# Altium schematic symbol library Schlib_H2.SchLib: 33 symbols
Pins are listed as number, name and electrical type; pins without a type are passive.

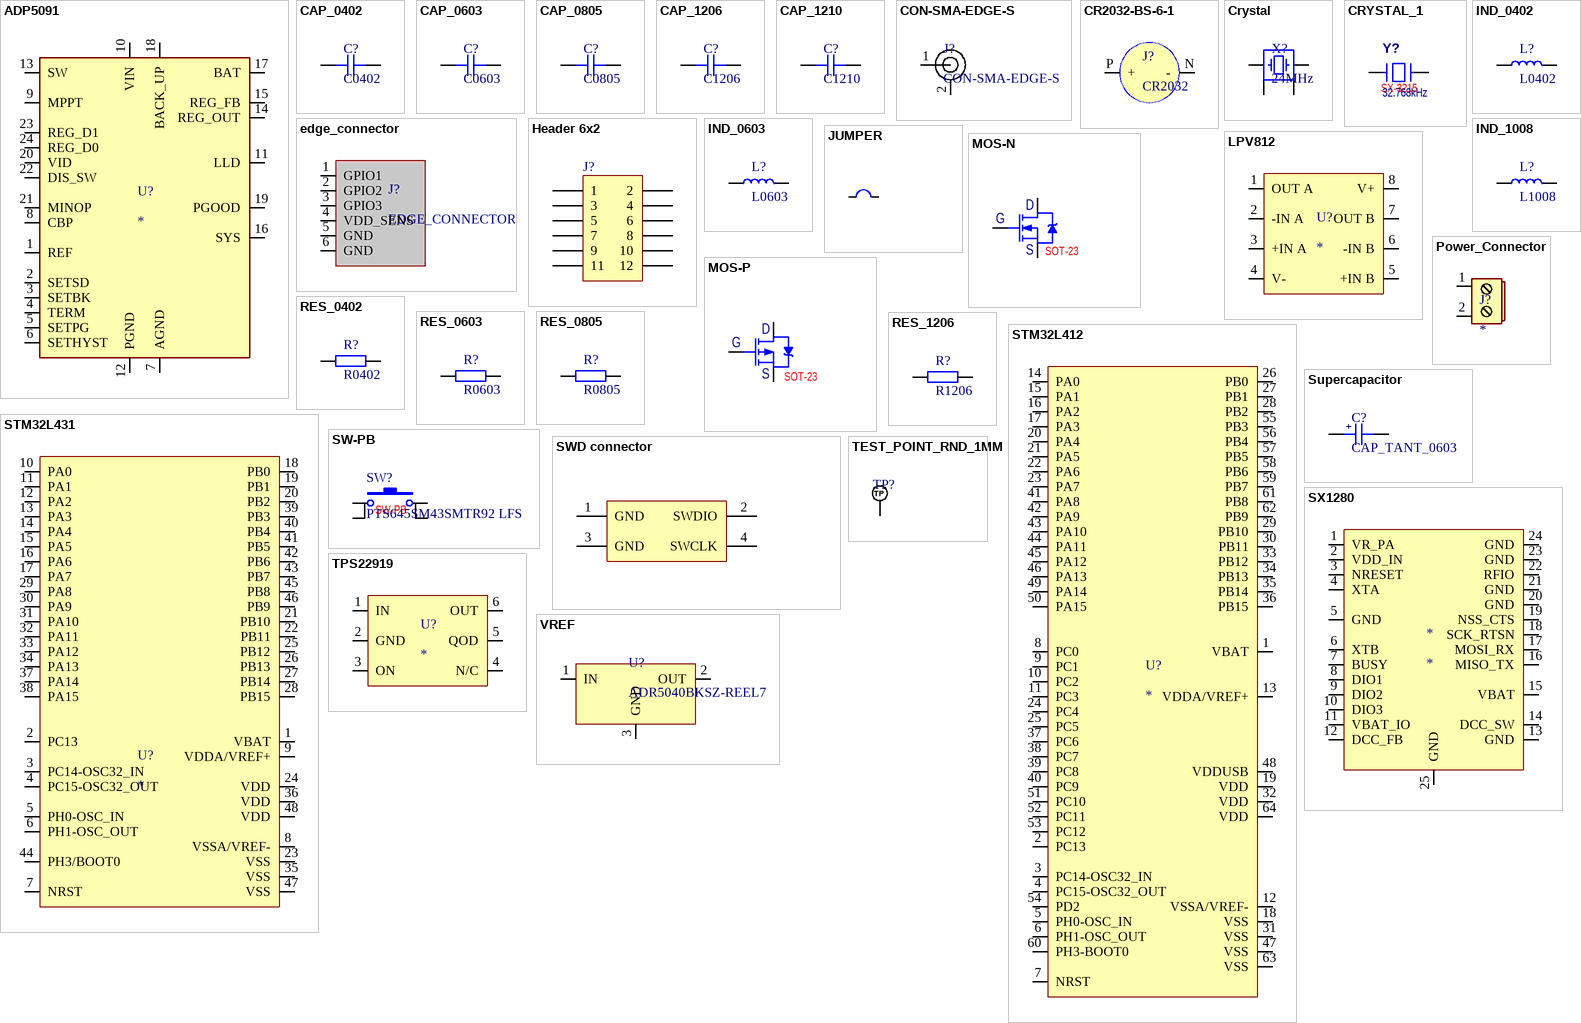
[diagram p0: symbols ADP5091 to VREF]

## ADP5091
designator U?
Ultralow Power Energy Harvester PMUs / with MPPT and Charge Management and BAckup Supply
pins: 1 REF, 2 SETSD, 3 SETBK, 4 TERM, 5 SETPG, 6 SETHYST, 7 AGND, 8 CBP, 9 MPPT, 10 VIN, 11 LLD, 12 PGND, 13 SW, 14 REG_OUT, 15 REG_FB, 16 SYS, 17 BAT, 18 BACK_UP, 19 PGOOD, 20 VID, 21 MINOP, 22 DIS_SW, 23 REG_D1, 24 REG_D0

## CAP_0402
designator C?, comment C0402
Capacitor SMD 0402; Manufacturer: *; Manufacturer Part Number: *; Distributor Link: *; LCSC: *; Rating: *; Dielectric: *
footprint CAP_0402
pins: 1, 2

## CAP_0603
designator C?, comment C0603
Capacitor SMD 0603; Manufacturer: *; Manufacturer Part Number: *; Distributor Link: *; LCSC: *; Rating: *; Dielectric: *
footprint CAP_0603
pins: 1, 2

## CAP_0805
designator C?, comment C0805
Capacitor SMD 0805; Manufacturer: *; Manufacturer Part Number: *; Distributor Link: *; LCSC: *; Rating: *; Dielectric: *
footprint CAP_0805
pins: 1, 2

## CAP_1206
designator C?, comment C1206
Capacitor SMD 1206; Manufacturer: *; Manufacturer Part Number: *; Distributor Link: *; LCSC: *; Rating: *; Dielectric: *
footprint CAP_1206
pins: 1, 2

## CAP_1210
designator C?, comment C1210
Capacitor SMD 1210; Manufacturer: *; Manufacturer Part Number: *; Distributor Link: *; LCSC: *; Rating: *; Dielectric: *
footprint CAP_1210
pins: 1, 2

## CON-SMA-EDGE-S
designator J?
RF Connector SMA Female 50 Ohms 18 GHz PCB Edge Mount; Manufacturer: RF Solutions; Manufacturer Part Number: CON-SMA-EDGE-S
footprint CON-SMA-EDGE-S
pins: 1, 2

## CR2032-BS-6-1
designator J?, comment CR2032
CR2032 Coin Cell Battery Holder; Manufacturer: Q&J; Manufacturer Part Number: CR2032-BS-6-1
footprint CR2032
pins: N -, P +

## Crystal
designator X?, comment 24MHz
Crystal; Manufacturer: Epson; Manufacturer Part Number: TSX-3225 24.0000MF15X-AC
footprint XTAL_3225
pins: 1, 2, 3, 4

## CRYSTAL_1
designator Y?, comment 32.768kHz  PackageReference: SX-3215
Crystal; Manufacturer Part Number 1: *
footprint SX-3215
pins: 1, 2
2 alternate drawings of the same symbol

## edge_connector
designator J?, comment EDGE_CONNECTOR
Connector for sensor modules
pins: 1 GPIO1, 2 GPIO2, 3 GPIO3, 4 VDD_SENS, 5 GND, 6 GND

## Header 6x2
designator J?, comment Header 6X2  (value not drawn)
Header, 12-Pin, Dual row; LatestRevisionDate: 17-Jul-2002; LatestRevisionNote: Re-released for DXP Platform.; Publisher: Altium Limited
footprint HDR2X32 (Connector; Header; 30x2 Position)
signal-integrity model Connector
pins: 1, 2, 3, 4, 5, 6, 7, 8, 9, 10, 11, 12

## IND_0402
designator L?, comment L0402
Inductor SMD 0402
footprint IND_0402
pins: 1, 2

## IND_0603
designator L?, comment L0603
Inductor SMD 0603
footprint IND_0603
pins: 1, 2

## IND_1008
designator L?, comment L1008
Inductor SMD 1008
footprint IND_1008
pins: 1, 2

## JUMPER
designator JP?
*; PackageReference: *; Manufacturer Part Number 1: *
footprint JUMPER_SMD
pins: 1, 2

## LPV812
designator U?
Dual Channel 425nA Precision Nanopower Operational Amplifiers
pins: 1 OUT A, 2 -IN A, 3 +IN A, 4 V-, 5 +IN B, 6 -IN B, 7 OUT B, 8 V+

## MOS-N
designator Q?  PackageReference: SOT-23
Mosfet N Channel; Manufacturer Part Number 1: *
footprint SOT23-3_1-3-2 (SOT-23; 3 Leads; Body 3.0 x 2.5 mm, inc. leads (LxW max))
pins: 1 G, 2 S, 3 D

## MOS-P
designator Q?  PackageReference: SOT-23
MOSFET P Channel; Manufacturer Part Number 1: *
footprint SOT23-3_1-3-2 (SOT-23; 3 Leads; Body 3.0 x 2.5 mm, inc. leads (LxW max))
pins: 1 G, 2 S, 3 D

## Power_Connector
designator J?
Screw terminal or plug terminal for power
pins: 1, 2

## RES_0402
designator R?, comment R0402
Resistor SMD 0402; Manufacturer: *; Manufacturer Part Number: *; Distributor Link: *; LCSC: *
footprint RES_0402
pins: 1, 2

## RES_0603
designator R?, comment R0603
Resistor SMD 0603; Manufacturer: *; Manufacturer Part Number: *; Distributor Link: *; LCSC: *
footprint RES_0603
pins: 1, 2

## RES_0805
designator R?, comment R0805
Resistor SMD 0805; Manufacturer: *; Manufacturer Part Number: *; Distributor Link: *; LCSC: *
footprint RES_0805
pins: 1, 2

## RES_1206
designator R?, comment R1206
Resistor SMD 1206; Manufacturer: *; Manufacturer Part Number: *; Distributor Link: *; LCSC: *
footprint RES_1206
pins: 1, 2

## STM32L412
designator U?
Ultra-low-power Arm® Cortex®-M4 32-bit MCU+FPU, 100DMIPS, / up to 128KB flash, 40KB SRAM(LQFP64)
pins: 1 VBAT, 2 PC13, 3 PC14-OSC32_IN, 4 PC15-OSC32_OUT, 5 PH0-OSC_IN, 6 PH1-OSC_OUT, 7 NRST, 8 PC0, 9 PC1, 10 PC2, 11 PC3, 12 VSSA/VREF-, 13 VDDA/VREF+, 14 PA0, 15 PA1, 16 PA2, 17 PA3, 18 VSS, 19 VDD, 20 PA4, 21 PA5, 22 PA6, 23 PA7, 24 PC4, 25 PC5, 26 PB0, 27 PB1, 28 PB2, 29 PB10, 30 PB11, 31 VSS, 32 VDD, 33 PB12, 34 PB13, 35 PB14, 36 PB15, 37 PC6, 38 PC7, 39 PC8, 40 PC9, 41 PA8, 42 PA9, 43 PA10, 44 PA11, 45 PA12, 46 PA13, 47 VSS, 48 VDDUSB, 49 PA14, 50 PA15, 51 PC10, 52 PC11, 53 PC12, 54 PD2, 55 PB3, 56 PB4, 57 PB5, 58 PB6, 59 PB7, 60 PH3-BOOT0, 61 PB8, 62 PB9, 63 VSS, 64 VDD

## STM32L431
designator U?
Ultra-low-power Arm® Cortex®-M4 32-bit MCU+FPU, 100DMIPS, / up to 128KB flash, 40KB SRAM(LQFP48)
pins: 1 VBAT, 2 PC13, 3 PC14-OSC32_IN, 4 PC15-OSC32_OUT, 5 PH0-OSC_IN, 6 PH1-OSC_OUT, 7 NRST, 8 VSSA/VREF-, 9 VDDA/VREF+, 10 PA0, 11 PA1, 12 PA2, 13 PA3, 14 PA4, 15 PA5, 16 PA6, 17 PA7, 18 PB0, 19 PB1, 20 PB2, 21 PB10, 22 PB11, 23 VSS, 24 VDD, 25 PB12, 26 PB13, 27 PB14, 28 PB15, 29 PA8, 30 PA9, 31 PA10, 32 PA11, 33 PA12, 34 PA13, 35 VSS, 36 VDD, 37 PA14, 38 PA15, 39 PB3, 40 PB4, 41 PB5, 42 PB6, 43 PB7, 44 PH3/BOOT0, 45 PB8, 46 PB9, 47 VSS, 48 VDD

## Supercapacitor
designator C?, comment CAP_TANT_0603
Supercapacitor; Manufacturer: *; Manufacturer Part Number: *; Distributor Link: *; LCSC: *
footprint CAP_TANT_0603
pins: 1, 2
text: +

## SW-PB
designator SW?, comment PTS645SM43SMTR92 LFS  PackageReference: SW-PB
Switch; Published: 24-Mar-1999; LatestRevisionDate: 17-Jul-2002; LatestRevisionNote: Re-released for DXP Platform.; Publisher: Altium Limited; PackageDescription: Switch; 2 Leads; Manufacturer Part Number 1: PTS645SM43SMTR92 LFS
footprint SW_PB
pins: 1, 2, 3, 4

## SWD connector
designator J?
Single Wire Debug connector with UART _TX pin; PackageReference: *; Manufacturer Part Number 1: *
pins: 1 GND, 2 SWDIO, 3 GND, 4 SWCLK

## SX1280
designator *
Low power LoRa transceiver operating at 2.4GHz with ranging capability
pins: 1 VR_PA, 2 VDD_IN, 3 NRESET, 4 XTA, 5 GND, 6 XTB, 7 BUSY, 8 DIO1, 9 DIO2, 10 DIO3, 11 VBAT_IO, 12 DCC_FB, 13 GND, 14 DCC_SW, 15 VBAT, 16 MISO_TX, 17 MOSI_RX, 18 SCK_RTSN, 19 NSS_CTS, 20 GND, 21 GND, 22 RFIO, 23 GND, 24 GND, 25 GND

## TEST_POINT_RND_1MM
designator TP?, comment TP_NOBOM  (value not drawn)  (no BOM)
Test Point Round 1mm (NO BOM)
footprint PAD_RND_1MM
pins: 1 TP

## TPS22919
designator U?
5.5-V, 1.5-A, 90-mΩ load switch with adjustable output discharge
pins: 1 IN, 2 GND, 3 ON, 4 N/C, 5 QOD, 6 OUT

## VREF
designator U?, comment ADR5040BKSZ-REEL7
Voltage References 2.048 Low-Cost, Micropower, Low-Dropout, High-Output-Current, SOT23; Manufacturer: Maxim Integrated; Manufacturer Part Number: MAX6101EUR+T
footprint SOT-23-3
pins: 1 IN, 2 OUT, 3 GND